# Altium footprint library PcbLib1.PcbLib: 1 footprints
Each footprint in its own frame and in the unit in brackets; x right, y up, seen from the top. Pads: shape width x height; smd on the part's side, far side on the other; paste and mask are expansions set on the pad; w line width, h text height; cw(c..) or ccw(c..) is an arc to the next point about the centre after c.
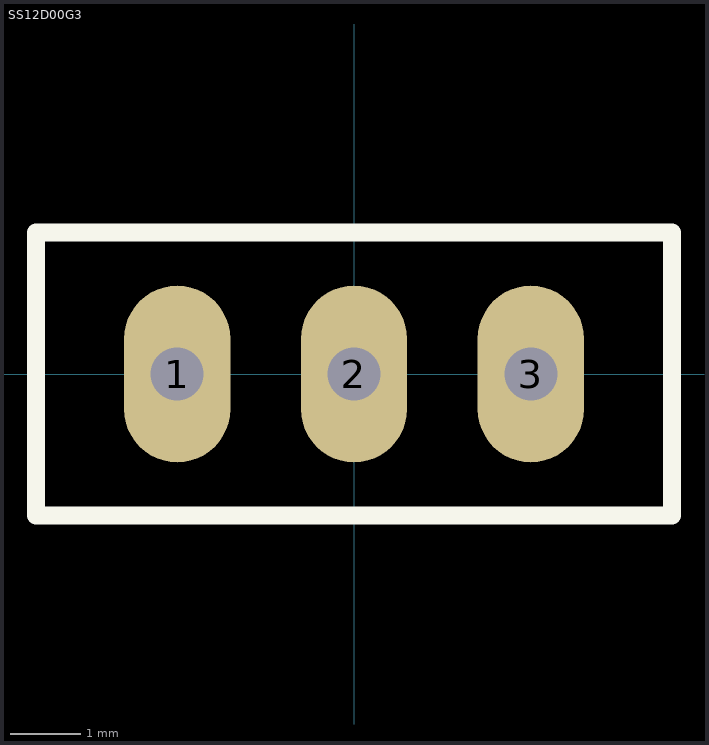
[diagram p0: the footprint, top view; thin cyan lines are the x and y axes]

## SS12D00G3 [mm] "SS12D00G3 TOGGLE SWITCH"
pads (3):
  oval 1.5x2.5 hole 0.75: 1(-2.5,0) 2(0,0) 3(2.5,0)
Top Overlay:
  lines w0.254: -4.5,1.9 -4.5,2 ; -4.4,2 4.5,2 4.5,-2 -4.5,-2 -4.5,2 ; -3.6,2 -4.5,2
3D body "Selector Switch - SS12D00.stp": height 6.97, standoff -2.53, extent -4.292,-1.854 4.293,1.854